# Altium footprint library 613 0xx 111 21.PcbLib: 22 footprints (part 2 of 2)
Each footprint in its own frame and in the unit in brackets; x right, y up, seen from the top. Pads: shape width x height; smd on the part's side, far side on the other; paste and mask are expansions set on the pad; w line width, h text height; cw(c..) or ccw(c..) is an arc to the next point about the centre after c.
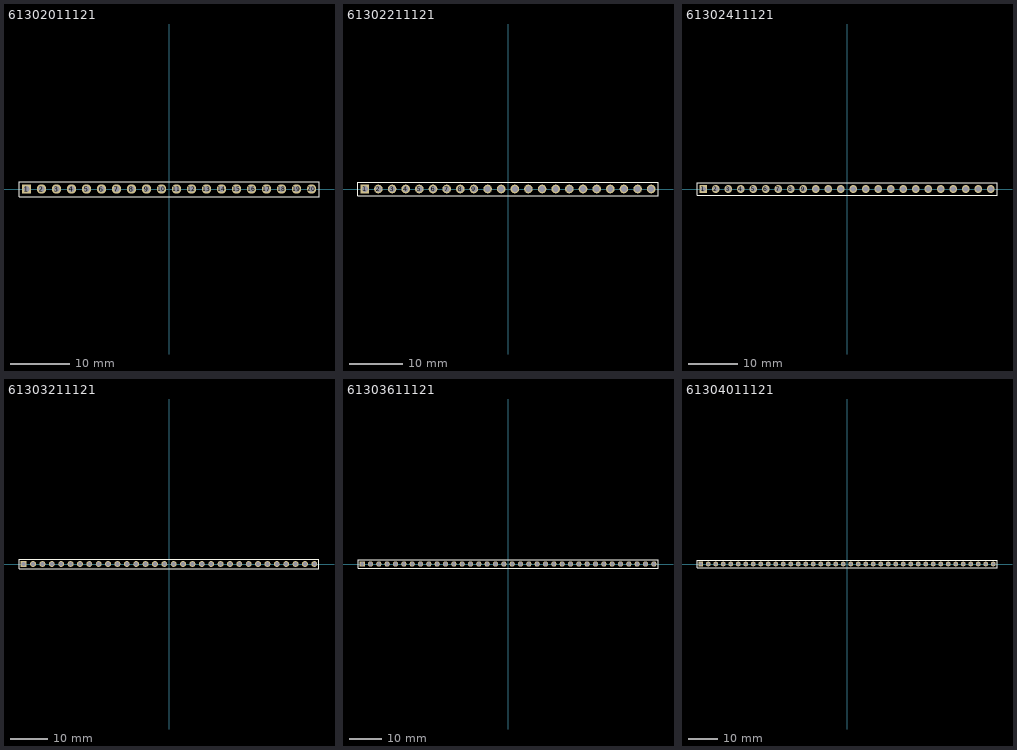
[diagram p1: the footprints below, top view; thin cyan lines are the x and y axes]

## 61302011121 [mm] "20 pins, 1 row, straight, gold plating"
height 8.54
pads (20):
  rect 1.6x1.6 hole 1.1: 1(-24.13,0)
  round 1.6 hole 1.1: 2(-21.59,0) 3(-19.05,0) 4(-16.51,0) 5(-13.97,0) 6(-11.43,0) 7(-8.89,0) 8(-6.35,0) 9(-3.81,0) 10(-1.27,0) 11(1.27,0) 12(3.81,0) 13(6.35,0) 14(8.89,0) 15(11.43,0) 16(13.97,0) 17(16.51,0) 18(19.05,0) 19(21.59,0) 20(24.13,0)
Top Overlay:
  lines w0.2: -25.4,-1.27 -25.4,1.27 25.4,1.27 25.4,-1.27 -25.4,-1.27
3D body "61302011121.stp": height 8.57, standoff -2.97, extent -25.4,-1.27 25.4,1.27

## 61302211121 [mm] "22 pins, 1 row, straight, gold plating"
height 8.54
pads (22):
  rect 1.6x1.6 hole 1.1: 1(-26.67,0)
  round 1.6 hole 1.1: 2(-24.13,0) 3(-21.59,0) 4(-19.05,0) 5(-16.51,0) 6(-13.97,0) 7(-11.43,0) 8(-8.89,0) 9(-6.35,0) 10(-3.81,0) 11(-1.27,0) 12(1.27,0) 13(3.81,0) 14(6.35,0) 15(8.89,0) 16(11.43,0) 17(13.97,0) 18(16.51,0) 19(19.05,0) 20(21.59,0) 21(24.13,0) 22(26.67,0)
Top Overlay:
  lines w0.2: -27.94,-1.27 27.94,-1.27 27.94,1.27 -27.94,1.27 -27.94,-1.27
3D body "61302211121.stp": height 8.57, standoff -2.97, extent -27.94,-1.27 27.94,1.27

## 61302411121 [mm] "24 pins, 1 row, straight, gold plating"
height 8.54
pads (24):
  rect 1.6x1.6 hole 1.1: 1(-29.21,0)
  round 1.6 hole 1.1: 2(-26.67,0) 3(-24.13,0) 4(-21.59,0) 5(-19.05,0) 6(-16.51,0) 7(-13.97,0) 8(-11.43,0) 9(-8.89,0) 10(-6.35,0) 11(-3.81,0) 12(-1.27,0) 13(1.27,0) 14(3.81,0) 15(6.35,0) 16(8.89,0) 17(11.43,0) 18(13.97,0) 19(16.51,0) 20(19.05,0) 21(21.59,0) 22(24.13,0) 23(26.67,0) 24(29.21,0)
Top Overlay:
  lines w0.2: -30.48,-1.27 -30.48,1.27 30.48,1.27 30.48,-1.27 -30.48,-1.27
3D body "61302411121.stp": height 8.57, standoff -2.97, extent -30.48,-1.27 30.48,1.27

## 61303211121 [mm] "32 pins, 1 row, straight, gold plating"
height 8.54
pads (32):
  rect 1.6x1.6 hole 1.1: 1(-39.37,0)
  round 1.6 hole 1.1: 2(-36.83,0) 3(-34.29,0) 4(-31.75,0) 5(-29.21,0) 6(-26.67,0) 7(-24.13,0) 8(-21.59,0) 9(-19.05,0) 10(-16.51,0) 11(-13.97,0) 12(-11.43,0) 13(-8.89,0) 14(-6.35,0) 15(-3.81,0) 16(-1.27,0) 17(1.27,0) 18(3.81,0) 19(6.35,0) 20(8.89,0) 21(11.43,0) 22(13.97,0) 23(16.51,0) 24(19.05,0) 25(21.59,0) 26(24.13,0) 27(26.67,0) 28(29.21,0) 29(31.75,0) 30(34.29,0) 31(36.83,0) 32(39.37,0)
Top Overlay:
  lines w0.2: -40.64,-1.27 40.64,-1.27 40.64,1.27 -40.64,1.27 -40.64,-1.27
3D body "61303211121.stp": height 8.57, standoff -2.97, extent -40.64,-1.27 40.64,1.27

## 61303611121 [mm] "36 pins, 1 row, straight, gold plating"
height 8.54
pads (36):
  rect 1.6x1.6 hole 1.1: 1(-44.45,0)
  round 1.6 hole 1.1: 2(-41.91,0) 3(-39.37,0) 4(-36.83,0) 5(-34.29,0) 6(-31.75,0) 7(-29.21,0) 8(-26.67,0) 9(-24.13,0) 10(-21.59,0) 11(-19.05,0) 12(-16.51,0) 13(-13.97,0) 14(-11.43,0) 15(-8.89,0) 16(-6.35,0) 17(-3.81,0) 18(-1.27,0) 19(1.27,0) 20(3.81,0) 21(6.35,0) 22(8.89,0) 23(11.43,0) 24(13.97,0) 25(16.51,0) 26(19.05,0) 27(21.59,0) 28(24.13,0) 29(26.67,0) 30(29.21,0) 31(31.75,0) 32(34.29,0) 33(36.83,0) 34(39.37,0) 35(41.91,0) 36(44.45,0)
Top Overlay:
  lines w0.2: -45.72,-1.27 -45.72,1.27 45.72,1.27 45.72,-1.27 -45.72,-1.27
3D body "61303611121.stp": height 8.57, standoff -2.97, extent -45.72,-1.27 45.72,1.27

## 61304011121 [mm] "40 pins, 1 row, straight, gold plating"
height 8.54
pads (40):
  rect 1.6x1.6 hole 1.1: 1(-49.53,0)
  round 1.6 hole 1.1: 2(-46.99,0) 3(-44.45,0) 4(-41.91,0) 5(-39.37,0) 6(-36.83,0) 7(-34.29,0) 8(-31.75,0) 9(-29.21,0) 10(-26.67,0) 11(-24.13,0) 12(-21.59,0) 13(-19.05,0) 14(-16.51,0) 15(-13.97,0) 16(-11.43,0) 17(-8.89,0) 18(-6.35,0) 19(-3.81,0) 20(-1.27,0) 21(1.27,0) 22(3.81,0) 23(6.35,0) 24(8.89,0) 25(11.43,0) 26(13.97,0) 27(16.51,0) 28(19.05,0) 29(21.59,0) 30(24.13,0) 31(26.67,0) 32(29.21,0) 33(31.75,0) 34(34.29,0) 35(36.83,0) 36(39.37,0) 37(41.91,0) 38(44.45,0) 39(46.99,0) 40(49.53,0)
Top Overlay:
  lines w0.2: -50.8,-1.27 50.8,-1.27 50.8,1.27 -50.8,1.27 -50.8,-1.27
3D body "61304011121.stp": height 8.57, standoff -2.97, extent -50.8,-1.27 50.8,1.27